# EAGLE library part TPS560430 (library balto)
TPS560430 SIMPLE SWITCHER ® 4-V to 36-V, 600-mA Synchronous Step-Down Converter http://www.ti.com/lit/ds/symlink/tps560430.pdf?HQS=TI-null-null-mousermode-df-pf-null-wwe&DCM=yes&ref_url=https%3A%2F%2Fwww.mouser.ie%2F
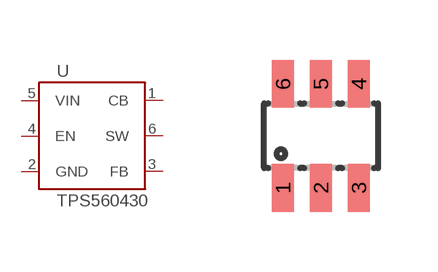
[diagram p55: symbol with the pads of SOT23-6L; footprint SOT23-6L]

Designator prefix U

## TPS560430  [SOT23-6L]
1  CB
2  GND
3  FB
4  EN
5  VIN
6  SW

## Footprint SOT23-6L (pad centres in mm)
Small Outline Transistor
smd 0.55 x 1.2: 1 -0.95,-1.3; 2 0,-1.3; 3 0.95,-1.3; 4 0.95,1.3; 5 0,1.3; 6 -0.95,1.3